# Altium schematic symbol library UHD1110-FKA-CL1A13r3q1BBQFMF3.SchLib: 1 symbol
Pins are listed as number, name and electrical type; pins without a type are passive.

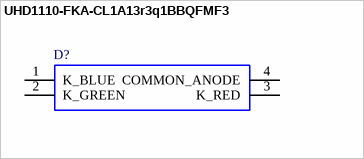
[diagram p0: symbol UHD1110-FKA-CL1A13r3q1BBQFMF3]

## UHD1110-FKA-CL1A13r3q1BBQFMF3
designator D?
Standard LEDs - SMD RGB SMD; Manufacturer_Name: Wolfspeed; Geometry.Height: 0.7mm; Mouser Part Number: 941-UHD0FKAC11BQFMF3; Mouser Price/Stock: https://www.mouser.co.uk/ProductDetail/Cree-LED/UHD1110-FKA-CL1A13r3q1BBQFMF3?qs=1mbolxNpo8fgJCAUZnlr7w%3D%3D; Manufacturer_Part_Number: UHD1110-FKA-CL1A13r3q1BBQFMF3; Datasheet Link: https://www.cree.com/led-components/media/documents/ds-UHD1110-FKA.pdf
footprint UHD1110FKACL1A13r3q1BBQFMF3
pins: 1 K_BLUE, 2 K_GREEN, 3 K_RED, 4 COMMON_ANODE